# Altium schematic symbol library WE-KI.SchLib: 314 symbols (part 3 of 6)
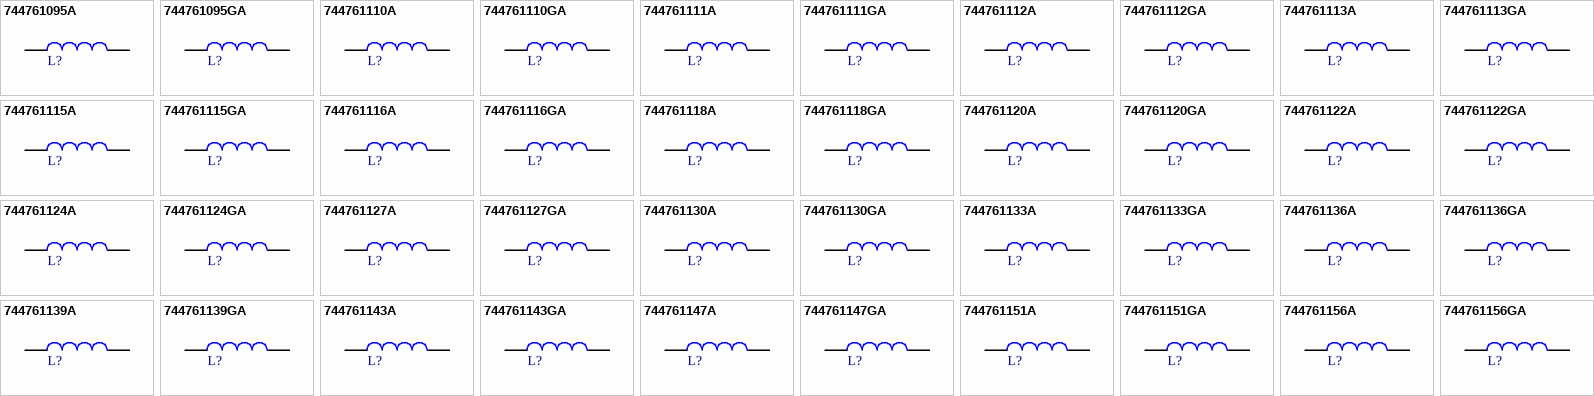
[diagram p9: symbols 744761095A to 744761156GA]

## 744761143A
designator L?, comment 43nH  (value not drawn)
WE-KI SMT Wire Wound Ceramic Inductor, size 0603, 43nH, 0.6A, 0.28Ω; Manufacturer Part Number: 744761143A; Manufacturer: Wurth Elektronik; Case/Size Code: 0603; Inductance Tolerance: +/-5%; Q Factor: 38; Self Resonant Frequency: 2000MHz; Category: RF Inductors; Match Code: WE-KI; ComponentLink1Description: Website Link; ComponentLink1URL: https://www.we-online.com/redexpert/article/744761143A?ad; ComponentLink2Description: Datasheet Link; ComponentLink2URL: https://www.we-online.com/redexpert/spec/744761143A?ad; Mount: Surface Mount; Operating Temperature Max: 125°C; Operating Temperature Min: -40°C; Packaging: Tape and Reel; Length: 1.6mm; Width: 1.05mm; Height: 1.05mm; DC Resistance Max: 0.28Ω; Inductance: 43nH; Rated Current: 0.6A
footprint WE-KI_0603
simulation model 0603_744761143A_43n
pins: 1, 2

## 744761143GA
designator L?, comment 43nH  (value not drawn)
WE-KI SMT Wire Wound Ceramic Inductor, size 0603, 43nH, 0.6A, 0.28Ω; Manufacturer Part Number: 744761143GA; Manufacturer: Wurth Elektronik; Case/Size Code: 0603; Inductance Tolerance: +/-2%; Q Factor: 38; Self Resonant Frequency: 2000MHz; Category: RF Inductors; Match Code: WE-KI; ComponentLink1Description: Website Link; ComponentLink1URL: https://www.we-online.com/redexpert/article/744761143GA?ad; ComponentLink2Description: Datasheet Link; ComponentLink2URL: https://www.we-online.com/redexpert/spec/744761143GA?ad; Mount: Surface Mount; Operating Temperature Max: 125°C; Operating Temperature Min: -40°C; Packaging: Tape and Reel; Length: 1.6mm; Width: 1.05mm; Height: 1.05mm; DC Resistance Max: 0.28Ω; Inductance: 43nH; Rated Current: 0.6A
footprint WE-KI_0603
simulation model 0603_744761143GA_43n
pins: 1, 2

## 744761147A
designator L?, comment 47nH  (value not drawn)
WE-KI SMT Wire Wound Ceramic Inductor, size 0603, 47nH, 0.6A, 0.28Ω; Manufacturer Part Number: 744761147A; Manufacturer: Wurth Elektronik; Case/Size Code: 0603; Inductance Tolerance: +/-5%; Q Factor: 40; Self Resonant Frequency: 2000MHz; Category: RF Inductors; Match Code: WE-KI; ComponentLink1Description: Website Link; ComponentLink1URL: https://www.we-online.com/redexpert/article/744761147A?ad; ComponentLink2Description: Datasheet Link; ComponentLink2URL: https://www.we-online.com/redexpert/spec/744761147A?ad; Mount: Surface Mount; Operating Temperature Max: 125°C; Operating Temperature Min: -40°C; Packaging: Tape and Reel; Length: 1.6mm; Width: 1.05mm; Height: 1.05mm; DC Resistance Max: 0.28Ω; Inductance: 47nH; Rated Current: 0.6A
footprint WE-KI_0603
simulation model 0603_744761147A_47n
pins: 1, 2

## 744761147GA
designator L?, comment 47nH  (value not drawn)
WE-KI SMT Wire Wound Ceramic Inductor, size 0603, 47nH, 0.6A, 0.28Ω; Manufacturer Part Number: 744761147GA; Manufacturer: Wurth Elektronik; Case/Size Code: 0603; Inductance Tolerance: +/-2%; Q Factor: 40; Self Resonant Frequency: 2000MHz; Category: RF Inductors; Match Code: WE-KI; ComponentLink1Description: Website Link; ComponentLink1URL: https://www.we-online.com/redexpert/article/744761147GA?ad; ComponentLink2Description: Datasheet Link; ComponentLink2URL: https://www.we-online.com/redexpert/spec/744761147GA?ad; Mount: Surface Mount; Operating Temperature Max: 125°C; Operating Temperature Min: -40°C; Packaging: Tape and Reel; Length: 1.6mm; Width: 1.05mm; Height: 1.05mm; DC Resistance Max: 0.28Ω; Inductance: 47nH; Rated Current: 0.6A
footprint WE-KI_0603
simulation model 0603_744761147GA_47n
pins: 1, 2

## 744761151A
designator L?, comment 51nH  (value not drawn)
WE-KI SMT Wire Wound Ceramic Inductor, size 0603, 51nH, 0.6A, 0.31Ω; Manufacturer Part Number: 744761151A; Manufacturer: Wurth Elektronik; Case/Size Code: 0603; Inductance Tolerance: +/-5%; Q Factor: 40; Self Resonant Frequency: 1900MHz; Category: RF Inductors; Match Code: WE-KI; ComponentLink1Description: Website Link; ComponentLink1URL: https://www.we-online.com/redexpert/article/744761151A?ad; ComponentLink2Description: Datasheet Link; ComponentLink2URL: https://www.we-online.com/redexpert/spec/744761151A?ad; Mount: Surface Mount; Operating Temperature Max: 125°C; Operating Temperature Min: -40°C; Packaging: Tape and Reel; Length: 1.6mm; Width: 1.05mm; Height: 1.05mm; DC Resistance Max: 0.31Ω; Inductance: 51nH; Rated Current: 0.6A
footprint WE-KI_0603
simulation model 0603_744761151A_51n
pins: 1, 2

## 744761151GA
designator L?, comment 51nH  (value not drawn)
WE-KI SMT Wire Wound Ceramic Inductor, size 0603, 51nH, 0.6A, 0.31Ω; Manufacturer Part Number: 744761151GA; Manufacturer: Wurth Elektronik; Case/Size Code: 0603; Inductance Tolerance: +/-2%; Q Factor: 40; Self Resonant Frequency: 1900MHz; Category: RF Inductors; Match Code: WE-KI; ComponentLink1Description: Website Link; ComponentLink1URL: https://www.we-online.com/redexpert/article/744761151GA?ad; ComponentLink2Description: Datasheet Link; ComponentLink2URL: https://www.we-online.com/redexpert/spec/744761151GA?ad; Mount: Surface Mount; Operating Temperature Max: 125°C; Operating Temperature Min: -40°C; Packaging: Tape and Reel; Length: 1.6mm; Width: 1.05mm; Height: 1.05mm; DC Resistance Max: 0.31Ω; Inductance: 51nH; Rated Current: 0.6A
footprint WE-KI_0603
simulation model 0603_744761151GA_51n
pins: 1, 2

## 744761156A
designator L?, comment 56nH  (value not drawn)
WE-KI SMT Wire Wound Ceramic Inductor, size 0603, 56nH, 0.6A, 0.31Ω; Manufacturer Part Number: 744761156A; Manufacturer: Wurth Elektronik; Case/Size Code: 0603; Inductance Tolerance: +/-5%; Q Factor: 40; Self Resonant Frequency: 1900MHz; Category: RF Inductors; Match Code: WE-KI; ComponentLink1Description: Website Link; ComponentLink1URL: https://www.we-online.com/redexpert/article/744761156A?ad; ComponentLink2Description: Datasheet Link; ComponentLink2URL: https://www.we-online.com/redexpert/spec/744761156A?ad; Mount: Surface Mount; Operating Temperature Max: 125°C; Operating Temperature Min: -40°C; Packaging: Tape and Reel; Length: 1.6mm; Width: 1.05mm; Height: 1.05mm; DC Resistance Max: 0.31Ω; Inductance: 56nH; Rated Current: 0.6A
footprint WE-KI_0603
simulation model 0603_744761156A_56n
pins: 1, 2

## 744761156GA
designator L?, comment 56nH  (value not drawn)
WE-KI SMT Wire Wound Ceramic Inductor, size 0603, 56nH, 0.6A, 0.31Ω; Manufacturer Part Number: 744761156GA; Manufacturer: Wurth Elektronik; Case/Size Code: 0603; Inductance Tolerance: +/-2%; Q Factor: 40; Self Resonant Frequency: 1900MHz; Category: RF Inductors; Match Code: WE-KI; ComponentLink1Description: Website Link; ComponentLink1URL: https://www.we-online.com/redexpert/article/744761156GA?ad; ComponentLink2Description: Datasheet Link; ComponentLink2URL: https://www.we-online.com/redexpert/spec/744761156GA?ad; Mount: Surface Mount; Operating Temperature Max: 125°C; Operating Temperature Min: -40°C; Packaging: Tape and Reel; Length: 1.6mm; Width: 1.05mm; Height: 1.05mm; DC Resistance Max: 0.31Ω; Inductance: 56nH; Rated Current: 0.6A
footprint WE-KI_0603
simulation model 0603_744761156GA_56n
pins: 1, 2

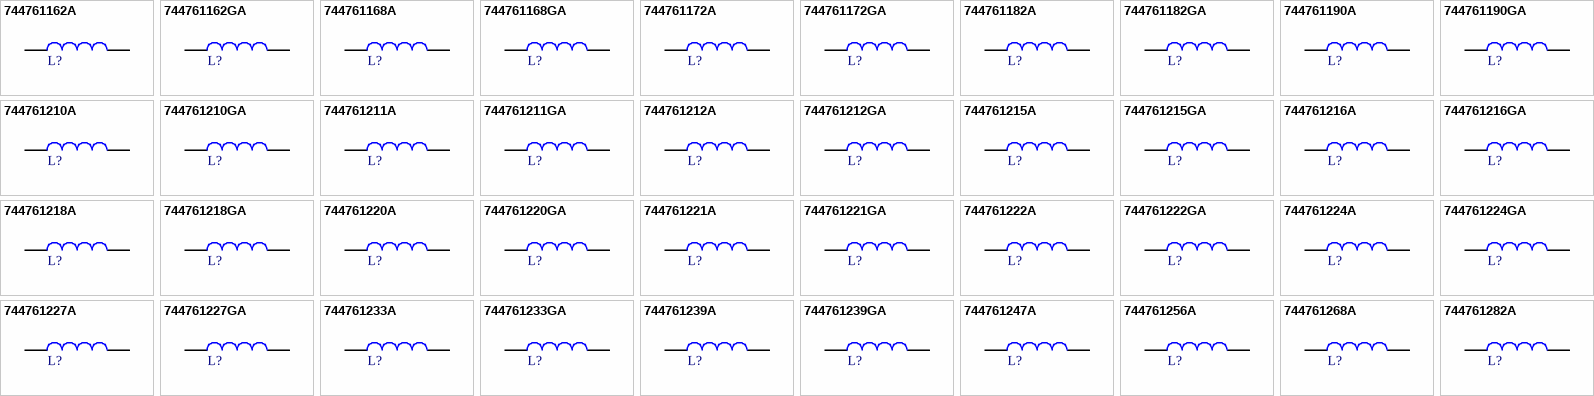
[diagram p3: symbols 744761162A to 744761282A]

## 744761162A
designator L?, comment 62nH  (value not drawn)
WE-KI SMT Wire Wound Ceramic Inductor, size 0603, 62nH, 0.6A, 0.34Ω; Manufacturer Part Number: 744761162A; Manufacturer: Wurth Elektronik; Case/Size Code: 0603; Inductance Tolerance: +/-5%; Q Factor: 40; Self Resonant Frequency: 1700MHz; Category: RF Inductors; Match Code: WE-KI; ComponentLink1Description: Website Link; ComponentLink1URL: https://www.we-online.com/redexpert/article/744761162A?ad; ComponentLink2Description: Datasheet Link; ComponentLink2URL: https://www.we-online.com/redexpert/spec/744761162A?ad; Mount: Surface Mount; Operating Temperature Max: 125°C; Operating Temperature Min: -40°C; Packaging: Tape and Reel; Length: 1.6mm; Width: 1.05mm; Height: 1.05mm; DC Resistance Max: 0.34Ω; Inductance: 62nH; Rated Current: 0.6A
footprint WE-KI_0603
simulation model 0603_744761162A_62n
pins: 1, 2

## 744761162GA
designator L?, comment 62nH  (value not drawn)
WE-KI SMT Wire Wound Ceramic Inductor, size 0603, 62nH, 0.6A, 0.34Ω; Manufacturer Part Number: 744761162GA; Manufacturer: Wurth Elektronik; Case/Size Code: 0603; Inductance Tolerance: +/-2%; Q Factor: 40; Self Resonant Frequency: 1700MHz; Category: RF Inductors; Match Code: WE-KI; ComponentLink1Description: Website Link; ComponentLink1URL: https://www.we-online.com/redexpert/article/744761162GA?ad; ComponentLink2Description: Datasheet Link; ComponentLink2URL: https://www.we-online.com/redexpert/spec/744761162GA?ad; Mount: Surface Mount; Operating Temperature Max: 125°C; Operating Temperature Min: -40°C; Packaging: Tape and Reel; Length: 1.6mm; Width: 1.05mm; Height: 1.05mm; DC Resistance Max: 0.34Ω; Inductance: 62nH; Rated Current: 0.6A
footprint WE-KI_0603
simulation model 0603_744761162GA_62n
pins: 1, 2

## 744761168A
designator L?, comment 68nH  (value not drawn)
WE-KI SMT Wire Wound Ceramic Inductor, size 0603, 68nH, 0.6A, 0.34Ω; Manufacturer Part Number: 744761168A; Manufacturer: Wurth Elektronik; Case/Size Code: 0603; Inductance Tolerance: +/-5%; Q Factor: 40; Self Resonant Frequency: 1700MHz; Category: RF Inductors; Match Code: WE-KI; ComponentLink1Description: Website Link; ComponentLink1URL: https://www.we-online.com/redexpert/article/744761168A?ad; ComponentLink2Description: Datasheet Link; ComponentLink2URL: https://www.we-online.com/redexpert/spec/744761168A?ad; Mount: Surface Mount; Operating Temperature Max: 125°C; Operating Temperature Min: -40°C; Packaging: Tape and Reel; Length: 1.6mm; Width: 1.05mm; Height: 1.05mm; DC Resistance Max: 0.34Ω; Inductance: 68nH; Rated Current: 0.6A
footprint WE-KI_0603
simulation model 0603_744761168A_68n
pins: 1, 2

## 744761168GA
designator L?, comment 68nH  (value not drawn)
WE-KI SMT Wire Wound Ceramic Inductor, size 0603, 68nH, 0.6A, 0.34Ω; Manufacturer Part Number: 744761168GA; Manufacturer: Wurth Elektronik; Case/Size Code: 0603; Inductance Tolerance: +/-2%; Q Factor: 40; Self Resonant Frequency: 1700MHz; Category: RF Inductors; Match Code: WE-KI; ComponentLink1Description: Website Link; ComponentLink1URL: https://www.we-online.com/redexpert/article/744761168GA?ad; ComponentLink2Description: Datasheet Link; ComponentLink2URL: https://www.we-online.com/redexpert/spec/744761168GA?ad; Mount: Surface Mount; Operating Temperature Max: 125°C; Operating Temperature Min: -40°C; Packaging: Tape and Reel; Length: 1.6mm; Width: 1.05mm; Height: 1.05mm; DC Resistance Max: 0.34Ω; Inductance: 68nH; Rated Current: 0.6A
footprint WE-KI_0603
simulation model 0603_744761168GA_68n
pins: 1, 2

## 744761172A
designator L?, comment 72nH  (value not drawn)
WE-KI SMT Wire Wound Ceramic Inductor, size 0603, 72nH, 0.4A, 0.49Ω; Manufacturer Part Number: 744761172A; Manufacturer: Wurth Elektronik; Case/Size Code: 0603; Inductance Tolerance: +/-5%; Q Factor: 35; Self Resonant Frequency: 1700MHz; Category: RF Inductors; Match Code: WE-KI; ComponentLink1Description: Website Link; ComponentLink1URL: https://www.we-online.com/redexpert/article/744761172A?ad; ComponentLink2Description: Datasheet Link; ComponentLink2URL: https://www.we-online.com/redexpert/spec/744761172A?ad; Mount: Surface Mount; Operating Temperature Max: 125°C; Operating Temperature Min: -40°C; Packaging: Tape and Reel; Length: 1.6mm; Width: 1.05mm; Height: 1.05mm; DC Resistance Max: 0.49Ω; Inductance: 72nH; Rated Current: 0.4A
footprint WE-KI_0603
simulation model 0603_744761172A_72n
pins: 1, 2

## 744761172GA
designator L?, comment 72nH  (value not drawn)
WE-KI SMT Wire Wound Ceramic Inductor, size 0603, 72nH, 0.4A, 0.49Ω; Manufacturer Part Number: 744761172GA; Manufacturer: Wurth Elektronik; Case/Size Code: 0603; Inductance Tolerance: +/-2%; Q Factor: 35; Self Resonant Frequency: 1700MHz; Category: RF Inductors; Match Code: WE-KI; ComponentLink1Description: Website Link; ComponentLink1URL: https://www.we-online.com/redexpert/article/744761172GA?ad; ComponentLink2Description: Datasheet Link; ComponentLink2URL: https://www.we-online.com/redexpert/spec/744761172GA?ad; Mount: Surface Mount; Operating Temperature Max: 125°C; Operating Temperature Min: -40°C; Packaging: Tape and Reel; Length: 1.6mm; Width: 1.05mm; Height: 1.05mm; DC Resistance Max: 0.49Ω; Inductance: 72nH; Rated Current: 0.4A
footprint WE-KI_0603
simulation model 0603_744761172GA_72n
pins: 1, 2

## 744761182A
designator L?, comment 82nH  (value not drawn)
WE-KI SMT Wire Wound Ceramic Inductor, size 0603, 82nH, 0.4A, 0.54Ω; Manufacturer Part Number: 744761182A; Manufacturer: Wurth Elektronik; Case/Size Code: 0603; Inductance Tolerance: +/-5%; Q Factor: 35; Self Resonant Frequency: 1700MHz; Category: RF Inductors; Match Code: WE-KI; ComponentLink1Description: Website Link; ComponentLink1URL: https://www.we-online.com/redexpert/article/744761182A?ad; ComponentLink2Description: Datasheet Link; ComponentLink2URL: https://www.we-online.com/redexpert/spec/744761182A?ad; Mount: Surface Mount; Operating Temperature Max: 125°C; Operating Temperature Min: -40°C; Packaging: Tape and Reel; Length: 1.6mm; Width: 1.05mm; Height: 1.05mm; DC Resistance Max: 0.54Ω; Inductance: 82nH; Rated Current: 0.4A
footprint WE-KI_0603
simulation model 0603_744761182A_82n
pins: 1, 2

## 744761182GA
designator L?, comment 82nH  (value not drawn)
WE-KI SMT Wire Wound Ceramic Inductor, size 0603, 82nH, 0.4A, 0.54Ω; Manufacturer Part Number: 744761182GA; Manufacturer: Wurth Elektronik; Case/Size Code: 0603; Inductance Tolerance: +/-2%; Q Factor: 35; Self Resonant Frequency: 1700MHz; Category: RF Inductors; Match Code: WE-KI; ComponentLink1Description: Website Link; ComponentLink1URL: https://www.we-online.com/redexpert/article/744761182GA?ad; ComponentLink2Description: Datasheet Link; ComponentLink2URL: https://www.we-online.com/redexpert/spec/744761182GA?ad; Mount: Surface Mount; Operating Temperature Max: 125°C; Operating Temperature Min: -40°C; Packaging: Tape and Reel; Length: 1.6mm; Width: 1.05mm; Height: 1.05mm; DC Resistance Max: 0.54Ω; Inductance: 82nH; Rated Current: 0.4A
footprint WE-KI_0603
simulation model 0603_744761182GA_82n
pins: 1, 2

## 744761190A
designator L?, comment 90nH  (value not drawn)
WE-KI SMT Wire Wound Ceramic Inductor, size 0603, 90nH, 0.4A, 0.54Ω; Manufacturer Part Number: 744761190A; Manufacturer: Wurth Elektronik; Case/Size Code: 0603; Inductance Tolerance: +/-5%; Q Factor: 35; Self Resonant Frequency: 1700MHz; Category: RF Inductors; Match Code: WE-KI; ComponentLink1Description: Website Link; ComponentLink1URL: https://www.we-online.com/redexpert/article/744761190A?ad; ComponentLink2Description: Datasheet Link; ComponentLink2URL: https://www.we-online.com/redexpert/spec/744761190A?ad; Mount: Surface Mount; Operating Temperature Max: 125°C; Operating Temperature Min: -40°C; Packaging: Tape and Reel; Length: 1.6mm; Width: 1.05mm; Height: 1.05mm; DC Resistance Max: 0.54Ω; Inductance: 90nH; Rated Current: 0.4A
footprint WE-KI_0603
simulation model 0603_744761190A_90n
pins: 1, 2

## 744761190GA
designator L?, comment 90nH  (value not drawn)
WE-KI SMT Wire Wound Ceramic Inductor, size 0603, 90nH, 0.4A, 0.54Ω; Manufacturer Part Number: 744761190GA; Manufacturer: Wurth Elektronik; Case/Size Code: 0603; Inductance Tolerance: +/-2%; Q Factor: 35; Self Resonant Frequency: 1700MHz; Category: RF Inductors; Match Code: WE-KI; ComponentLink1Description: Website Link; ComponentLink1URL: https://www.we-online.com/redexpert/article/744761190GA?ad; ComponentLink2Description: Datasheet Link; ComponentLink2URL: https://www.we-online.com/redexpert/spec/744761190GA?ad; Mount: Surface Mount; Operating Temperature Max: 125°C; Operating Temperature Min: -40°C; Packaging: Tape and Reel; Length: 1.6mm; Width: 1.05mm; Height: 1.05mm; DC Resistance Max: 0.54Ω; Inductance: 90nH; Rated Current: 0.4A
footprint WE-KI_0603
simulation model 0603_744761190GA_90n
pins: 1, 2

## 744761210A
designator L?, comment 100nH  (value not drawn)
WE-KI SMT Wire Wound Ceramic Inductor, size 0603, 100nH, 0.4A, 0.63Ω; Manufacturer Part Number: 744761210A; Manufacturer: Wurth Elektronik; Case/Size Code: 0603; Inductance Tolerance: +/-5%; Q Factor: 35; Self Resonant Frequency: 1400MHz; Category: RF Inductors; Match Code: WE-KI; ComponentLink1Description: Website Link; ComponentLink1URL: https://www.we-online.com/redexpert/article/744761210A?ad; ComponentLink2Description: Datasheet Link; ComponentLink2URL: https://www.we-online.com/redexpert/spec/744761210A?ad; Mount: Surface Mount; Operating Temperature Max: 125°C; Operating Temperature Min: -40°C; Packaging: Tape and Reel; Length: 1.6mm; Width: 1.05mm; Height: 1.05mm; DC Resistance Max: 0.63Ω; Inductance: 100nH; Rated Current: 0.4A
footprint WE-KI_0603
simulation model 0603_744761210A_100n
pins: 1, 2

## 744761210GA
designator L?, comment 100nH  (value not drawn)
WE-KI SMT Wire Wound Ceramic Inductor, size 0603, 100nH, 0.4A, 0.63Ω; Manufacturer Part Number: 744761210GA; Manufacturer: Wurth Elektronik; Case/Size Code: 0603; Inductance Tolerance: +/-2%; Q Factor: 35; Self Resonant Frequency: 1400MHz; Category: RF Inductors; Match Code: WE-KI; ComponentLink1Description: Website Link; ComponentLink1URL: https://www.we-online.com/redexpert/article/744761210GA?ad; ComponentLink2Description: Datasheet Link; ComponentLink2URL: https://www.we-online.com/redexpert/spec/744761210GA?ad; Mount: Surface Mount; Operating Temperature Max: 125°C; Operating Temperature Min: -40°C; Packaging: Tape and Reel; Length: 1.6mm; Width: 1.05mm; Height: 1.05mm; DC Resistance Max: 0.63Ω; Inductance: 100nH; Rated Current: 0.4A
footprint WE-KI_0603
simulation model 0603_744761210GA_100n
pins: 1, 2

## 744761211A
designator L?, comment 110nH  (value not drawn)
WE-KI SMT Wire Wound Ceramic Inductor, size 0603, 110nH, 0.4A, 0.63Ω; Manufacturer Part Number: 744761211A; Manufacturer: Wurth Elektronik; Case/Size Code: 0603; Inductance Tolerance: +/-5%; Q Factor: 35; Self Resonant Frequency: 1400MHz; Category: RF Inductors; Match Code: WE-KI; ComponentLink1Description: Website Link; ComponentLink1URL: https://www.we-online.com/redexpert/article/744761211A?ad; ComponentLink2Description: Datasheet Link; ComponentLink2URL: https://www.we-online.com/redexpert/spec/744761211A?ad; Mount: Surface Mount; Operating Temperature Max: 125°C; Operating Temperature Min: -40°C; Packaging: Tape and Reel; Length: 1.6mm; Width: 1.05mm; Height: 1.05mm; DC Resistance Max: 0.63Ω; Inductance: 110nH; Rated Current: 0.4A
footprint WE-KI_0603
simulation model 0603_744761211A_110n
pins: 1, 2

## 744761211GA
designator L?, comment 110nH  (value not drawn)
WE-KI SMT Wire Wound Ceramic Inductor, size 0603, 110nH, 0.4A, 0.63Ω; Manufacturer Part Number: 744761211GA; Manufacturer: Wurth Elektronik; Case/Size Code: 0603; Inductance Tolerance: +/-2%; Q Factor: 35; Self Resonant Frequency: 1400MHz; Category: RF Inductors; Match Code: WE-KI; ComponentLink1Description: Website Link; ComponentLink1URL: https://www.we-online.com/redexpert/article/744761211GA?ad; ComponentLink2Description: Datasheet Link; ComponentLink2URL: https://www.we-online.com/redexpert/spec/744761211GA?ad; Mount: Surface Mount; Operating Temperature Max: 125°C; Operating Temperature Min: -40°C; Packaging: Tape and Reel; Length: 1.6mm; Width: 1.05mm; Height: 1.05mm; DC Resistance Max: 0.63Ω; Inductance: 110nH; Rated Current: 0.4A
footprint WE-KI_0603
simulation model 0603_744761211GA_110n
pins: 1, 2

## 744761212A
designator L?, comment 120nH  (value not drawn)
WE-KI SMT Wire Wound Ceramic Inductor, size 0603, 120nH, 0.3A, 0.65Ω; Manufacturer Part Number: 744761212A; Manufacturer: Wurth Elektronik; Case/Size Code: 0603; Inductance Tolerance: +/-5%; Q Factor: 35; Self Resonant Frequency: 1300MHz; Category: RF Inductors; Match Code: WE-KI; ComponentLink1Description: Website Link; ComponentLink1URL: https://www.we-online.com/redexpert/article/744761212A?ad; ComponentLink2Description: Datasheet Link; ComponentLink2URL: https://www.we-online.com/redexpert/spec/744761212A?ad; Mount: Surface Mount; Operating Temperature Max: 125°C; Operating Temperature Min: -40°C; Packaging: Tape and Reel; Length: 1.6mm; Width: 1.05mm; Height: 1.05mm; DC Resistance Max: 0.65Ω; Inductance: 120nH; Rated Current: 0.3A
footprint WE-KI_0603
simulation model 0603_744761212A_120n
pins: 1, 2

## 744761212GA
designator L?, comment 120nH  (value not drawn)
WE-KI SMT Wire Wound Ceramic Inductor, size 0603, 120nH, 0.3A, 0.65Ω; Manufacturer Part Number: 744761212GA; Manufacturer: Wurth Elektronik; Case/Size Code: 0603; Inductance Tolerance: +/-2%; Q Factor: 35; Self Resonant Frequency: 1300MHz; Category: RF Inductors; Match Code: WE-KI; ComponentLink1Description: Website Link; ComponentLink1URL: https://www.we-online.com/redexpert/article/744761212GA?ad; ComponentLink2Description: Datasheet Link; ComponentLink2URL: https://www.we-online.com/redexpert/spec/744761212GA?ad; Mount: Surface Mount; Operating Temperature Max: 125°C; Operating Temperature Min: -40°C; Packaging: Tape and Reel; Length: 1.6mm; Width: 1.05mm; Height: 1.05mm; DC Resistance Max: 0.65Ω; Inductance: 120nH; Rated Current: 0.3A
footprint WE-KI_0603
simulation model 0603_744761212GA_120n
pins: 1, 2

## 744761215A
designator L?, comment 150nH  (value not drawn)
WE-KI SMT Wire Wound Ceramic Inductor, size 0603, 150nH, 0.28A, 0.92Ω; Manufacturer Part Number: 744761215A; Manufacturer: Wurth Elektronik; Case/Size Code: 0603; Inductance Tolerance: +/-5%; Q Factor: 35; Self Resonant Frequency: 1000MHz; Category: RF Inductors; Match Code: WE-KI; ComponentLink1Description: Website Link; ComponentLink1URL: https://www.we-online.com/redexpert/article/744761215A?ad; ComponentLink2Description: Datasheet Link; ComponentLink2URL: https://www.we-online.com/redexpert/spec/744761215A?ad; Mount: Surface Mount; Operating Temperature Max: 125°C; Operating Temperature Min: -40°C; Packaging: Tape and Reel; Length: 1.6mm; Width: 1.05mm; Height: 1.05mm; DC Resistance Max: 0.92Ω; Inductance: 150nH; Rated Current: 0.28A
footprint WE-KI_0603
simulation model 0603_744761215A_150n
pins: 1, 2

## 744761215GA
designator L?, comment 150nH  (value not drawn)
WE-KI SMT Wire Wound Ceramic Inductor, size 0603, 150nH, 0.28A, 0.92Ω; Manufacturer Part Number: 744761215GA; Manufacturer: Wurth Elektronik; Case/Size Code: 0603; Inductance Tolerance: +/-2%; Q Factor: 35; Self Resonant Frequency: 1000MHz; Category: RF Inductors; Match Code: WE-KI; ComponentLink1Description: Website Link; ComponentLink1URL: https://www.we-online.com/redexpert/article/744761215GA?ad; ComponentLink2Description: Datasheet Link; ComponentLink2URL: https://www.we-online.com/redexpert/spec/744761215GA?ad; Mount: Surface Mount; Operating Temperature Max: 125°C; Operating Temperature Min: -40°C; Packaging: Tape and Reel; Length: 1.6mm; Width: 1.05mm; Height: 1.05mm; DC Resistance Max: 0.92Ω; Inductance: 150nH; Rated Current: 0.28A
footprint WE-KI_0603
simulation model 0603_744761215GA_150n
pins: 1, 2

## 744761216A
designator L?, comment 160nH  (value not drawn)
WE-KI SMT Wire Wound Ceramic Inductor, size 0603, 160nH, 0.25A, 1Ω; Manufacturer Part Number: 744761216A; Manufacturer: Wurth Elektronik; Case/Size Code: 0603; Inductance Tolerance: +/-5%; Q Factor: 30; Self Resonant Frequency: 1000MHz; Category: RF Inductors; Match Code: WE-KI; ComponentLink1Description: Website Link; ComponentLink1URL: https://www.we-online.com/redexpert/article/744761216A?ad; ComponentLink2Description: Datasheet Link; ComponentLink2URL: https://www.we-online.com/redexpert/spec/744761216A?ad; Mount: Surface Mount; Operating Temperature Max: 125°C; Operating Temperature Min: -40°C; Packaging: Tape and Reel; Length: 1.6mm; Width: 1.05mm; Height: 1.05mm; DC Resistance Max: 1Ω; Inductance: 160nH; Rated Current: 0.25A
footprint WE-KI_0603
simulation model 0603_744761216A_160n
pins: 1, 2

## 744761216GA
designator L?, comment 160nH  (value not drawn)
WE-KI SMT Wire Wound Ceramic Inductor, size 0603, 160nH, 0.25A, 1Ω; Manufacturer Part Number: 744761216GA; Manufacturer: Wurth Elektronik; Case/Size Code: 0603; Inductance Tolerance: +/-2%; Q Factor: 30; Self Resonant Frequency: 1000MHz; Category: RF Inductors; Match Code: WE-KI; ComponentLink1Description: Website Link; ComponentLink1URL: https://www.we-online.com/redexpert/article/744761216GA?ad; ComponentLink2Description: Datasheet Link; ComponentLink2URL: https://www.we-online.com/redexpert/spec/744761216GA?ad; Mount: Surface Mount; Operating Temperature Max: 125°C; Operating Temperature Min: -40°C; Packaging: Tape and Reel; Length: 1.6mm; Width: 1.05mm; Height: 1.05mm; DC Resistance Max: 1Ω; Inductance: 160nH; Rated Current: 0.25A
footprint WE-KI_0603
simulation model 0603_744761216GA_160n
pins: 1, 2

## 744761218A
designator L?, comment 180nH  (value not drawn)
WE-KI SMT Wire Wound Ceramic Inductor, size 0603, 180nH, 0.24A, 1.25Ω; Manufacturer Part Number: 744761218A; Manufacturer: Wurth Elektronik; Case/Size Code: 0603; Inductance Tolerance: +/-5%; Q Factor: 30; Self Resonant Frequency: 1000MHz; Category: RF Inductors; Match Code: WE-KI; ComponentLink1Description: Website Link; ComponentLink1URL: https://www.we-online.com/redexpert/article/744761218A?ad; ComponentLink2Description: Datasheet Link; ComponentLink2URL: https://www.we-online.com/redexpert/spec/744761218A?ad; Mount: Surface Mount; Operating Temperature Max: 125°C; Operating Temperature Min: -40°C; Packaging: Tape and Reel; Length: 1.6mm; Width: 1.05mm; Height: 1.05mm; DC Resistance Max: 1.25Ω; Inductance: 180nH; Rated Current: 0.24A
footprint WE-KI_0603
simulation model 0603_744761218A_180n
pins: 1, 2

## 744761218GA
designator L?, comment 180nH  (value not drawn)
WE-KI SMT Wire Wound Ceramic Inductor, size 0603, 180nH, 0.24A, 1.25Ω; Manufacturer Part Number: 744761218GA; Manufacturer: Wurth Elektronik; Case/Size Code: 0603; Inductance Tolerance: +/-2%; Q Factor: 30; Self Resonant Frequency: 1000MHz; Category: RF Inductors; Match Code: WE-KI; ComponentLink1Description: Website Link; ComponentLink1URL: https://www.we-online.com/redexpert/article/744761218GA?ad; ComponentLink2Description: Datasheet Link; ComponentLink2URL: https://www.we-online.com/redexpert/spec/744761218GA?ad; Mount: Surface Mount; Operating Temperature Max: 125°C; Operating Temperature Min: -40°C; Packaging: Tape and Reel; Length: 1.6mm; Width: 1.05mm; Height: 1.05mm; DC Resistance Max: 1.25Ω; Inductance: 180nH; Rated Current: 0.24A
footprint WE-KI_0603
simulation model 0603_744761218GA_180n
pins: 1, 2

## 744761220A
designator L?, comment 200nH  (value not drawn)
WE-KI SMT Wire Wound Ceramic Inductor, size 0603, 200nH, 0.24A, 1.25Ω; Manufacturer Part Number: 744761220A; Manufacturer: Wurth Elektronik; Case/Size Code: 0603; Inductance Tolerance: +/-5%; Q Factor: 30; Self Resonant Frequency: 1000MHz; Category: RF Inductors; Match Code: WE-KI; ComponentLink1Description: Website Link; ComponentLink1URL: https://www.we-online.com/redexpert/article/744761220A?ad; ComponentLink2Description: Datasheet Link; ComponentLink2URL: https://www.we-online.com/redexpert/spec/744761220A?ad; Mount: Surface Mount; Operating Temperature Max: 125°C; Operating Temperature Min: -40°C; Packaging: Tape and Reel; Length: 1.6mm; Width: 1.05mm; Height: 1.05mm; DC Resistance Max: 1.25Ω; Inductance: 200nH; Rated Current: 0.24A
footprint WE-KI_0603
simulation model 0603_744761220A_200n
pins: 1, 2

## 744761220GA
designator L?, comment 200nH  (value not drawn)
WE-KI SMT Wire Wound Ceramic Inductor, size 0603, 200nH, 0.24A, 1.25Ω; Manufacturer Part Number: 744761220GA; Manufacturer: Wurth Elektronik; Case/Size Code: 0603; Inductance Tolerance: +/-2%; Q Factor: 30; Self Resonant Frequency: 1000MHz; Category: RF Inductors; Match Code: WE-KI; ComponentLink1Description: Website Link; ComponentLink1URL: https://www.we-online.com/redexpert/article/744761220GA?ad; ComponentLink2Description: Datasheet Link; ComponentLink2URL: https://www.we-online.com/redexpert/spec/744761220GA?ad; Mount: Surface Mount; Operating Temperature Max: 125°C; Operating Temperature Min: -40°C; Packaging: Tape and Reel; Length: 1.6mm; Width: 1.05mm; Height: 1.05mm; DC Resistance Max: 1.25Ω; Inductance: 200nH; Rated Current: 0.24A
footprint WE-KI_0603
simulation model 0603_744761220GA_200n
pins: 1, 2

## 744761221A
designator L?, comment 210nH  (value not drawn)
WE-KI SMT Wire Wound Ceramic Inductor, size 0603, 210nH, 0.2A, 1.7Ω; Manufacturer Part Number: 744761221A; Manufacturer: Wurth Elektronik; Case/Size Code: 0603; Inductance Tolerance: +/-5%; Q Factor: 27; Self Resonant Frequency: 1000MHz; Category: RF Inductors; Match Code: WE-KI; ComponentLink1Description: Website Link; ComponentLink1URL: https://www.we-online.com/redexpert/article/744761221A?ad; ComponentLink2Description: Datasheet Link; ComponentLink2URL: https://www.we-online.com/redexpert/spec/744761221A?ad; Mount: Surface Mount; Operating Temperature Max: 125°C; Operating Temperature Min: -40°C; Packaging: Tape and Reel; Length: 1.6mm; Width: 1.05mm; Height: 1.05mm; DC Resistance Max: 1.7Ω; Inductance: 210nH; Rated Current: 0.2A
footprint WE-KI_0603
simulation model 0603_744761221A_210n
pins: 1, 2

## 744761221GA
designator L?, comment 210nH  (value not drawn)
WE-KI SMT Wire Wound Ceramic Inductor, size 0603, 210nH, 0.2A, 1.7Ω; Manufacturer Part Number: 744761221GA; Manufacturer: Wurth Elektronik; Case/Size Code: 0603; Inductance Tolerance: +/-2%; Q Factor: 27; Self Resonant Frequency: 1000MHz; Category: RF Inductors; Match Code: WE-KI; ComponentLink1Description: Website Link; ComponentLink1URL: https://www.we-online.com/redexpert/article/744761221GA?ad; ComponentLink2Description: Datasheet Link; ComponentLink2URL: https://www.we-online.com/redexpert/spec/744761221GA?ad; Mount: Surface Mount; Operating Temperature Max: 125°C; Operating Temperature Min: -40°C; Packaging: Tape and Reel; Length: 1.6mm; Width: 1.05mm; Height: 1.05mm; DC Resistance Max: 1.7Ω; Inductance: 210nH; Rated Current: 0.2A
footprint WE-KI_0603
simulation model 0603_744761221GA_210n
pins: 1, 2

## 744761222A
designator L?, comment 220nH  (value not drawn)
WE-KI SMT Wire Wound Ceramic Inductor, size 0603, 220nH, 0.2A, 1.7Ω; Manufacturer Part Number: 744761222A; Manufacturer: Wurth Elektronik; Case/Size Code: 0603; Inductance Tolerance: +/-5%; Q Factor: 30; Self Resonant Frequency: 1000MHz; Category: RF Inductors; Match Code: WE-KI; ComponentLink1Description: Website Link; ComponentLink1URL: https://www.we-online.com/redexpert/article/744761222A?ad; ComponentLink2Description: Datasheet Link; ComponentLink2URL: https://www.we-online.com/redexpert/spec/744761222A?ad; Mount: Surface Mount; Operating Temperature Max: 125°C; Operating Temperature Min: -40°C; Packaging: Tape and Reel; Length: 1.6mm; Width: 1.05mm; Height: 1.05mm; DC Resistance Max: 1.7Ω; Inductance: 220nH; Rated Current: 0.2A
footprint WE-KI_0603
simulation model 0603_744761222A_220n
pins: 1, 2

## 744761222GA
designator L?, comment 220nH  (value not drawn)
WE-KI SMT Wire Wound Ceramic Inductor, size 0603, 220nH, 0.2A, 1.7Ω; Manufacturer Part Number: 744761222GA; Manufacturer: Wurth Elektronik; Case/Size Code: 0603; Inductance Tolerance: +/-2%; Q Factor: 30; Self Resonant Frequency: 1000MHz; Category: RF Inductors; Match Code: WE-KI; ComponentLink1Description: Website Link; ComponentLink1URL: https://www.we-online.com/redexpert/article/744761222GA?ad; ComponentLink2Description: Datasheet Link; ComponentLink2URL: https://www.we-online.com/redexpert/spec/744761222GA?ad; Mount: Surface Mount; Operating Temperature Max: 125°C; Operating Temperature Min: -40°C; Packaging: Tape and Reel; Length: 1.6mm; Width: 1.05mm; Height: 1.05mm; DC Resistance Max: 1.7Ω; Inductance: 220nH; Rated Current: 0.2A
footprint WE-KI_0603
simulation model 0603_744761222GA_220n
pins: 1, 2

## 744761224A
designator L?, comment 240nH  (value not drawn)
WE-KI SMT Wire Wound Ceramic Inductor, size 0603, 240nH, 0.2A, 1.7Ω; Manufacturer Part Number: 744761224A; Manufacturer: Wurth Elektronik; Case/Size Code: 0603; Inductance Tolerance: +/-5%; Q Factor: 30; Self Resonant Frequency: 1000MHz; Category: RF Inductors; Match Code: WE-KI; ComponentLink1Description: Website Link; ComponentLink1URL: https://www.we-online.com/redexpert/article/744761224A?ad; ComponentLink2Description: Datasheet Link; ComponentLink2URL: https://www.we-online.com/redexpert/spec/744761224A?ad; Mount: Surface Mount; Operating Temperature Max: 125°C; Operating Temperature Min: -40°C; Packaging: Tape and Reel; Length: 1.6mm; Width: 1.05mm; Height: 1.05mm; DC Resistance Max: 1.7Ω; Inductance: 240nH; Rated Current: 0.2A
footprint WE-KI_0603
simulation model 0603_744761224A_240n
pins: 1, 2

## 744761224GA
designator L?, comment 240nH  (value not drawn)
WE-KI SMT Wire Wound Ceramic Inductor, size 0603, 240nH, 0.2A, 1.7Ω; Manufacturer Part Number: 744761224GA; Manufacturer: Wurth Elektronik; Case/Size Code: 0603; Inductance Tolerance: +/-2%; Q Factor: 30; Self Resonant Frequency: 1000MHz; Category: RF Inductors; Match Code: WE-KI; ComponentLink1Description: Website Link; ComponentLink1URL: https://www.we-online.com/redexpert/article/744761224GA?ad; ComponentLink2Description: Datasheet Link; ComponentLink2URL: https://www.we-online.com/redexpert/spec/744761224GA?ad; Mount: Surface Mount; Operating Temperature Max: 125°C; Operating Temperature Min: -40°C; Packaging: Tape and Reel; Length: 1.6mm; Width: 1.05mm; Height: 1.05mm; DC Resistance Max: 1.7Ω; Inductance: 240nH; Rated Current: 0.2A
footprint WE-KI_0603
simulation model 0603_744761224GA_240n
pins: 1, 2

## 744761227A
designator L?, comment 270nH  (value not drawn)
WE-KI SMT Wire Wound Ceramic Inductor, size 0603, 270nH, 0.17A, 1.8Ω; Manufacturer Part Number: 744761227A; Manufacturer: Wurth Elektronik; Case/Size Code: 0603; Inductance Tolerance: +/-5%; Q Factor: 30; Self Resonant Frequency: 1000MHz; Category: RF Inductors; Match Code: WE-KI; ComponentLink1Description: Website Link; ComponentLink1URL: https://www.we-online.com/redexpert/article/744761227A?ad; ComponentLink2Description: Datasheet Link; ComponentLink2URL: https://www.we-online.com/redexpert/spec/744761227A?ad; Mount: Surface Mount; Operating Temperature Max: 125°C; Operating Temperature Min: -40°C; Packaging: Tape and Reel; Length: 1.6mm; Width: 1.05mm; Height: 1.05mm; DC Resistance Max: 1.8Ω; Inductance: 270nH; Rated Current: 0.17A
footprint WE-KI_0603
simulation model 0603_744761227A_270n
pins: 1, 2

## 744761227GA
designator L?, comment 270nH  (value not drawn)
WE-KI SMT Wire Wound Ceramic Inductor, size 0603, 270nH, 0.17A, 1.8Ω; Manufacturer Part Number: 744761227GA; Manufacturer: Wurth Elektronik; Case/Size Code: 0603; Inductance Tolerance: +/-2%; Q Factor: 30; Self Resonant Frequency: 1000MHz; Category: RF Inductors; Match Code: WE-KI; ComponentLink1Description: Website Link; ComponentLink1URL: https://www.we-online.com/redexpert/article/744761227GA?ad; ComponentLink2Description: Datasheet Link; ComponentLink2URL: https://www.we-online.com/redexpert/spec/744761227GA?ad; Mount: Surface Mount; Operating Temperature Max: 125°C; Operating Temperature Min: -40°C; Packaging: Tape and Reel; Length: 1.6mm; Width: 1.05mm; Height: 1.05mm; DC Resistance Max: 1.8Ω; Inductance: 270nH; Rated Current: 0.17A
footprint WE-KI_0603
simulation model 0603_744761227GA_270n
pins: 1, 2

## 744761233A
designator L?, comment 330nH  (value not drawn)
WE-KI SMT Wire Wound Ceramic Inductor, size 0603, 330nH, 0.15A, 2Ω; Manufacturer Part Number: 744761233A; Manufacturer: Wurth Elektronik; Case/Size Code: 0603; Inductance Tolerance: +/-5%; Q Factor: 25; Self Resonant Frequency: 450MHz; Category: RF Inductors; Match Code: WE-KI; ComponentLink1Description: Website Link; ComponentLink1URL: https://www.we-online.com/redexpert/article/744761233A?ad; ComponentLink2Description: Datasheet Link; ComponentLink2URL: https://www.we-online.com/redexpert/spec/744761233A?ad; Mount: Surface Mount; Operating Temperature Max: 125°C; Operating Temperature Min: -40°C; Packaging: Tape and Reel; Length: 1.6mm; Width: 1.05mm; Height: 1.05mm; DC Resistance Max: 2Ω; Inductance: 330nH; Rated Current: 0.15A
footprint WE-KI_0603
simulation model 0603_744761233A_330n
pins: 1, 2

## 744761233GA
designator L?, comment 330nH  (value not drawn)
WE-KI SMT Wire Wound Ceramic Inductor, size 0603, 330nH, 0.15A, 2Ω; Manufacturer Part Number: 744761233GA; Manufacturer: Wurth Elektronik; Case/Size Code: 0603; Inductance Tolerance: +/-2%; Q Factor: 25; Self Resonant Frequency: 450MHz; Category: RF Inductors; Match Code: WE-KI; ComponentLink1Description: Website Link; ComponentLink1URL: https://www.we-online.com/redexpert/article/744761233GA?ad; ComponentLink2Description: Datasheet Link; ComponentLink2URL: https://www.we-online.com/redexpert/spec/744761233GA?ad; Mount: Surface Mount; Operating Temperature Max: 125°C; Operating Temperature Min: -40°C; Packaging: Tape and Reel; Length: 1.6mm; Width: 1.05mm; Height: 1.05mm; DC Resistance Max: 2Ω; Inductance: 330nH; Rated Current: 0.15A
footprint WE-KI_0603
simulation model 0603_744761233GA_330n
pins: 1, 2

## 744761239A
designator L?, comment 390nH  (value not drawn)
WE-KI SMT Wire Wound Ceramic Inductor, size 0603, 390nH, 0.17A, 2Ω; Manufacturer Part Number: 744761239A; Manufacturer: Wurth Elektronik; Case/Size Code: 0603; Inductance Tolerance: +/-5%; Q Factor: 20; Self Resonant Frequency: 350MHz; Category: RF Inductors; Match Code: WE-KI; ComponentLink1Description: Website Link; ComponentLink1URL: https://www.we-online.com/redexpert/article/744761239A?ad; ComponentLink2Description: Datasheet Link; ComponentLink2URL: https://www.we-online.com/redexpert/spec/744761239A?ad; Mount: Surface Mount; Operating Temperature Max: 125°C; Operating Temperature Min: -40°C; Packaging: Tape and Reel; Length: 1.6mm; Width: 1.05mm; Height: 1.05mm; DC Resistance Max: 2Ω; Inductance: 390nH; Rated Current: 0.17A
footprint WE-KI_0603
simulation model 0603_744761239A_390n
pins: 1, 2

## 744761239GA
designator L?, comment 390nH  (value not drawn)
WE-KI SMT Wire Wound Ceramic Inductor, size 0603, 390nH, 0.17A, 2Ω; Manufacturer Part Number: 744761239GA; Manufacturer: Wurth Elektronik; Case/Size Code: 0603; Inductance Tolerance: +/-2%; Q Factor: 20; Self Resonant Frequency: 350MHz; Category: RF Inductors; Match Code: WE-KI; ComponentLink1Description: Website Link; ComponentLink1URL: https://www.we-online.com/redexpert/article/744761239GA?ad; ComponentLink2Description: Datasheet Link; ComponentLink2URL: https://www.we-online.com/redexpert/spec/744761239GA?ad; Mount: Surface Mount; Operating Temperature Max: 125°C; Operating Temperature Min: -40°C; Packaging: Tape and Reel; Length: 1.6mm; Width: 1.05mm; Height: 1.05mm; DC Resistance Max: 2Ω; Inductance: 390nH; Rated Current: 0.17A
footprint WE-KI_0603
simulation model 0603_744761239GA_390n
pins: 1, 2

## 744761247A
designator L?, comment 470nH  (value not drawn)
WE-KI SMT Wire Wound Ceramic Inductor, size 0603, 470nH, 0.17A, 2.1Ω; Manufacturer Part Number: 744761247A; Manufacturer: Wurth Elektronik; Case/Size Code: 0603; Inductance Tolerance: +/-5%; Q Factor: 15; Self Resonant Frequency: 250MHz; Category: RF Inductors; Match Code: WE-KI; ComponentLink1Description: Website Link; ComponentLink1URL: https://www.we-online.com/redexpert/article/744761247A?ad; ComponentLink2Description: Datasheet Link; ComponentLink2URL: https://www.we-online.com/redexpert/spec/744761247A?ad; Mount: Surface Mount; Operating Temperature Max: 125°C; Operating Temperature Min: -40°C; Packaging: Tape and Reel; Length: 1.6mm; Width: 1.05mm; Height: 1.05mm; DC Resistance Max: 2.1Ω; Inductance: 470nH; Rated Current: 0.17A
footprint WE-KI_0603
simulation model 0603_744761247A_470n
pins: 1, 2

## 744761256A
designator L?, comment 560nH  (value not drawn)
WE-KI SMT Wire Wound Ceramic Inductor, size 0603, 560nH, 0.12A, 2.5Ω; Manufacturer Part Number: 744761256A; Manufacturer: Wurth Elektronik; Case/Size Code: 0603; Inductance Tolerance: +/-5%; Q Factor: 15; Self Resonant Frequency: 220MHz; Category: RF Inductors; Match Code: WE-KI; ComponentLink1Description: Website Link; ComponentLink1URL: https://www.we-online.com/redexpert/article/744761256A?ad; ComponentLink2Description: Datasheet Link; ComponentLink2URL: https://www.we-online.com/redexpert/spec/744761256A?ad; Mount: Surface Mount; Operating Temperature Max: 125°C; Operating Temperature Min: -40°C; Packaging: Tape and Reel; Length: 1.6mm; Width: 1.05mm; Height: 1.05mm; DC Resistance Max: 2.5Ω; Inductance: 560nH; Rated Current: 0.12A
footprint WE-KI_0603
simulation model 0603_744761256A_560n
pins: 1, 2

## 744761268A
designator L?, comment 680nH  (value not drawn)
WE-KI SMT Wire Wound Ceramic Inductor, size 0603, 680nH, 0.12A, 2.9Ω; Manufacturer Part Number: 744761268A; Manufacturer: Wurth Elektronik; Case/Size Code: 0603; Inductance Tolerance: +/-5%; Q Factor: 15; Self Resonant Frequency: 200MHz; Category: RF Inductors; Match Code: WE-KI; ComponentLink1Description: Website Link; ComponentLink1URL: https://www.we-online.com/redexpert/article/744761268A?ad; ComponentLink2Description: Datasheet Link; ComponentLink2URL: https://www.we-online.com/redexpert/spec/744761268A?ad; Mount: Surface Mount; Operating Temperature Max: 125°C; Operating Temperature Min: -40°C; Packaging: Tape and Reel; Length: 1.6mm; Width: 1.05mm; Height: 1.05mm; DC Resistance Max: 2.9Ω; Inductance: 680nH; Rated Current: 0.12A
footprint WE-KI_0603
simulation model 0603_744761268A_680n
pins: 1, 2

## 744761282A
designator L?, comment 820nH  (value not drawn)
WE-KI SMT Wire Wound Ceramic Inductor, size 0603, 820nH, 0.12A, 3.2Ω; Manufacturer Part Number: 744761282A; Manufacturer: Wurth Elektronik; Case/Size Code: 0603; Inductance Tolerance: +/-5%; Q Factor: 15; Self Resonant Frequency: 200MHz; Category: RF Inductors; Match Code: WE-KI; ComponentLink1Description: Website Link; ComponentLink1URL: https://www.we-online.com/redexpert/article/744761282A?ad; ComponentLink2Description: Datasheet Link; ComponentLink2URL: https://www.we-online.com/redexpert/spec/744761282A?ad; Mount: Surface Mount; Operating Temperature Max: 125°C; Operating Temperature Min: -40°C; Packaging: Tape and Reel; Length: 1.6mm; Width: 1.05mm; Height: 1.05mm; DC Resistance Max: 3.2Ω; Inductance: 820nH; Rated Current: 0.12A
footprint WE-KI_0603
simulation model 0603_744761282A_820n
pins: 1, 2

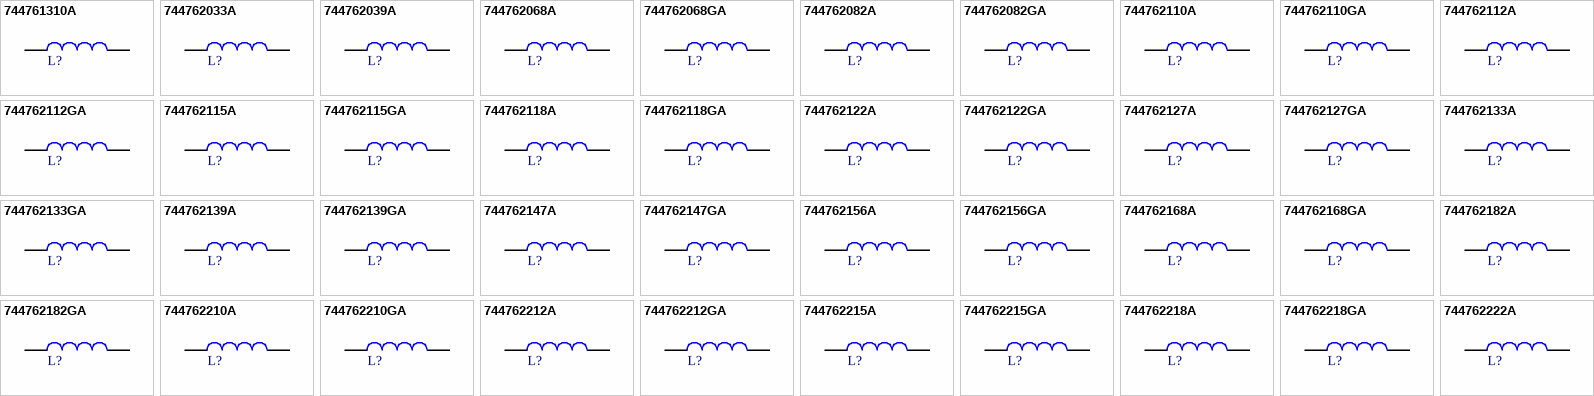
[diagram p4: symbols 744761310A to 744762222A]

## 744761310A
designator L?, comment 1000nH  (value not drawn)
WE-KI SMT Wire Wound Ceramic Inductor, size 0603, 1000nH, 0.12A, 3.5Ω; Manufacturer Part Number: 744761310A; Manufacturer: Wurth Elektronik; Case/Size Code: 0603; Inductance Tolerance: +/-5%; Q Factor: 15; Self Resonant Frequency: 200MHz; Category: RF Inductors; Match Code: WE-KI; ComponentLink1Description: Website Link; ComponentLink1URL: https://www.we-online.com/redexpert/article/744761310A?ad; ComponentLink2Description: Datasheet Link; ComponentLink2URL: https://www.we-online.com/redexpert/spec/744761310A?ad; Mount: Surface Mount; Operating Temperature Max: 125°C; Operating Temperature Min: -40°C; Packaging: Tape and Reel; Length: 1.6mm; Width: 1.05mm; Height: 1.05mm; DC Resistance Max: 3.5Ω; Inductance: 1000nH; Rated Current: 0.12A
footprint WE-KI_0603
simulation model 0603_744761310A_1000n
pins: 1, 2

## 744762033A
designator L?, comment 3.3nH  (value not drawn)
WE-KI SMT Wire Wound Ceramic Inductor, size 1008, 3.3nH, 1A, 0.06Ω; Manufacturer Part Number: 744762033A; Manufacturer: Wurth Elektronik; Case/Size Code: 1008; Inductance Tolerance: +/-0.3nH; Q Factor: 50; Self Resonant Frequency: 6000MHz; Category: RF Inductors; Match Code: WE-KI; ComponentLink1Description: Website Link; ComponentLink1URL: https://www.we-online.com/redexpert/article/744762033A?ad; ComponentLink2Description: Datasheet Link; ComponentLink2URL: https://www.we-online.com/redexpert/spec/744762033A?ad; Mount: Surface Mount; Operating Temperature Max: 125°C; Operating Temperature Min: -40°C; Packaging: Tape and Reel; Length: 2.5mm; Width: 2mm; Height: 1.6mm; DC Resistance Max: 0.06Ω; Inductance: 3.3nH; Rated Current: 1A
footprint WE-KI_1008
simulation model 1008_744762033A_3.3n
pins: 1, 2

## 744762039A
designator L?, comment 3.9nH  (value not drawn)
WE-KI SMT Wire Wound Ceramic Inductor, size 1008, 3.9nH, 1A, 0.1Ω; Manufacturer Part Number: 744762039A; Manufacturer: Wurth Elektronik; Case/Size Code: 1008; Inductance Tolerance: +/-0.3nH; Q Factor: 38; Self Resonant Frequency: 5500MHz; Category: RF Inductors; Match Code: WE-KI; ComponentLink1Description: Website Link; ComponentLink1URL: https://www.we-online.com/redexpert/article/744762039A?ad; ComponentLink2Description: Datasheet Link; ComponentLink2URL: https://www.we-online.com/redexpert/spec/744762039A?ad; Mount: Surface Mount; Operating Temperature Max: 125°C; Operating Temperature Min: -40°C; Packaging: Tape and Reel; Length: 2.5mm; Width: 2mm; Height: 1.6mm; DC Resistance Max: 0.1Ω; Inductance: 3.9nH; Rated Current: 1A
footprint WE-KI_1008
simulation model 1008_744762039A_3.9n
pins: 1, 2

## 744762068A
designator L?, comment 6.8nH  (value not drawn)
WE-KI SMT Wire Wound Ceramic Inductor, size 1008, 6.8nH, 1A, 0.06Ω; Manufacturer Part Number: 744762068A; Manufacturer: Wurth Elektronik; Case/Size Code: 1008; Inductance Tolerance: +/-5%; Q Factor: 50; Self Resonant Frequency: 5500MHz; Category: RF Inductors; Match Code: WE-KI; ComponentLink1Description: Website Link; ComponentLink1URL: https://www.we-online.com/redexpert/article/744762068A?ad; ComponentLink2Description: Datasheet Link; ComponentLink2URL: https://www.we-online.com/redexpert/spec/744762068A?ad; Mount: Surface Mount; Operating Temperature Max: 125°C; Operating Temperature Min: -40°C; Packaging: Tape and Reel; Length: 2.5mm; Width: 2mm; Height: 1.6mm; DC Resistance Max: 0.06Ω; Inductance: 6.8nH; Rated Current: 1A
footprint WE-KI_1008
simulation model 1008_744762068A_6.8n
pins: 1, 2

## 744762068GA
designator L?, comment 6.8nH  (value not drawn)
WE-KI SMT Wire Wound Ceramic Inductor, size 1008, 6.8nH, 1A, 0.06Ω; Manufacturer Part Number: 744762068GA; Manufacturer: Wurth Elektronik; Case/Size Code: 1008; Inductance Tolerance: +/-0.2nH; Q Factor: 50; Self Resonant Frequency: 5500MHz; Category: RF Inductors; Match Code: WE-KI; ComponentLink1Description: Website Link; ComponentLink1URL: https://www.we-online.com/redexpert/article/744762068GA?ad; ComponentLink2Description: Datasheet Link; ComponentLink2URL: https://www.we-online.com/redexpert/spec/744762068GA?ad; Mount: Surface Mount; Operating Temperature Max: 125°C; Operating Temperature Min: -40°C; Packaging: Tape and Reel; Length: 2.5mm; Width: 2mm; Height: 1.6mm; DC Resistance Max: 0.06Ω; Inductance: 6.8nH; Rated Current: 1A
footprint WE-KI_1008
simulation model 1008_744762068GA_6.8n
pins: 1, 2

## 744762082A
designator L?, comment 8.2nH  (value not drawn)
WE-KI SMT Wire Wound Ceramic Inductor, size 1008, 8.2nH, 1A, 0.06Ω; Manufacturer Part Number: 744762082A; Manufacturer: Wurth Elektronik; Case/Size Code: 1008; Inductance Tolerance: +/-5%; Q Factor: 50; Self Resonant Frequency: 5500MHz; Category: RF Inductors; Match Code: WE-KI; ComponentLink1Description: Website Link; ComponentLink1URL: https://www.we-online.com/redexpert/article/744762082A?ad; ComponentLink2Description: Datasheet Link; ComponentLink2URL: https://www.we-online.com/redexpert/spec/744762082A?ad; Mount: Surface Mount; Operating Temperature Max: 125°C; Operating Temperature Min: -40°C; Packaging: Tape and Reel; Length: 2.5mm; Width: 2mm; Height: 1.6mm; DC Resistance Max: 0.06Ω; Inductance: 8.2nH; Rated Current: 1A
footprint WE-KI_1008
simulation model 1008_744762082A_8.2n
pins: 1, 2

## 744762082GA
designator L?, comment 8.2nH  (value not drawn)
WE-KI SMT Wire Wound Ceramic Inductor, size 1008, 8.2nH, 1A, 0.06Ω; Manufacturer Part Number: 744762082GA; Manufacturer: Wurth Elektronik; Case/Size Code: 1008; Inductance Tolerance: +/-0.2nH; Q Factor: 50; Self Resonant Frequency: 5500MHz; Category: RF Inductors; Match Code: WE-KI; ComponentLink1Description: Website Link; ComponentLink1URL: https://www.we-online.com/redexpert/article/744762082GA?ad; ComponentLink2Description: Datasheet Link; ComponentLink2URL: https://www.we-online.com/redexpert/spec/744762082GA?ad; Mount: Surface Mount; Operating Temperature Max: 125°C; Operating Temperature Min: -40°C; Packaging: Tape and Reel; Length: 2.5mm; Width: 2mm; Height: 1.6mm; DC Resistance Max: 0.06Ω; Inductance: 8.2nH; Rated Current: 1A
footprint WE-KI_1008
simulation model 1008_744762082GA_8.2n
pins: 1, 2

## 744762110A
designator L?, comment 10nH  (value not drawn)
WE-KI SMT Wire Wound Ceramic Inductor, size 1008, 10nH, 1A, 0.08Ω; Manufacturer Part Number: 744762110A; Manufacturer: Wurth Elektronik; Case/Size Code: 1008; Inductance Tolerance: +/-5%; Q Factor: 50; Self Resonant Frequency: 4300MHz; Category: RF Inductors; Match Code: WE-KI; ComponentLink1Description: Website Link; ComponentLink1URL: https://www.we-online.com/redexpert/article/744762110A?ad; ComponentLink2Description: Datasheet Link; ComponentLink2URL: https://www.we-online.com/redexpert/spec/744762110A?ad; Mount: Surface Mount; Operating Temperature Max: 125°C; Operating Temperature Min: -40°C; Packaging: Tape and Reel; Length: 2.5mm; Width: 2mm; Height: 1.6mm; DC Resistance Max: 0.08Ω; Inductance: 10nH; Rated Current: 1A
footprint WE-KI_1008
simulation model 1008_744762110A_10n
pins: 1, 2